# EAGLE library part X__JST_SH_LIEGEND_4 (library 16112011___connector)
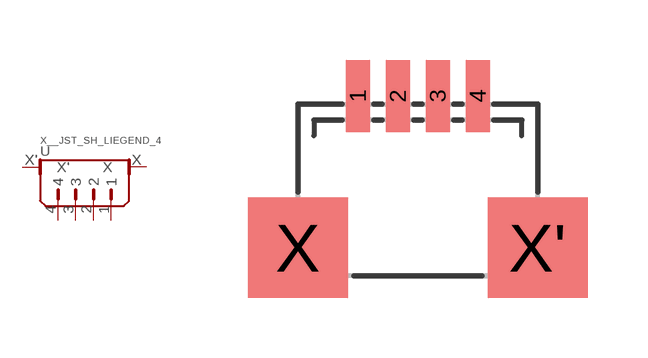
[diagram p29: symbol with the pads of JST_SH_LIEGEND_4; footprint JST_SH_LIEGEND_4]

Designator prefix -

## X__JST_SH_LIEGEND_4  [JST_SH_LIEGEND_4]
1  1
2  2
3  3
4  4
X  X
X'  X'

## Footprint JST_SH_LIEGEND_4 (pad centres in mm)
smd 0.6 x 1.8: 1 0,0; 2 1,0; 3 2,0; 4 3,0
smd 2.5 x 2.5: X -1.5,-3.8; X' 4.5,-3.8